# Altium schematic symbol library MICRO-GRUPO_5-5A.schLib.SchLib: 20 symbols
Pins are listed as number, name and electrical type; pins without a type are passive.

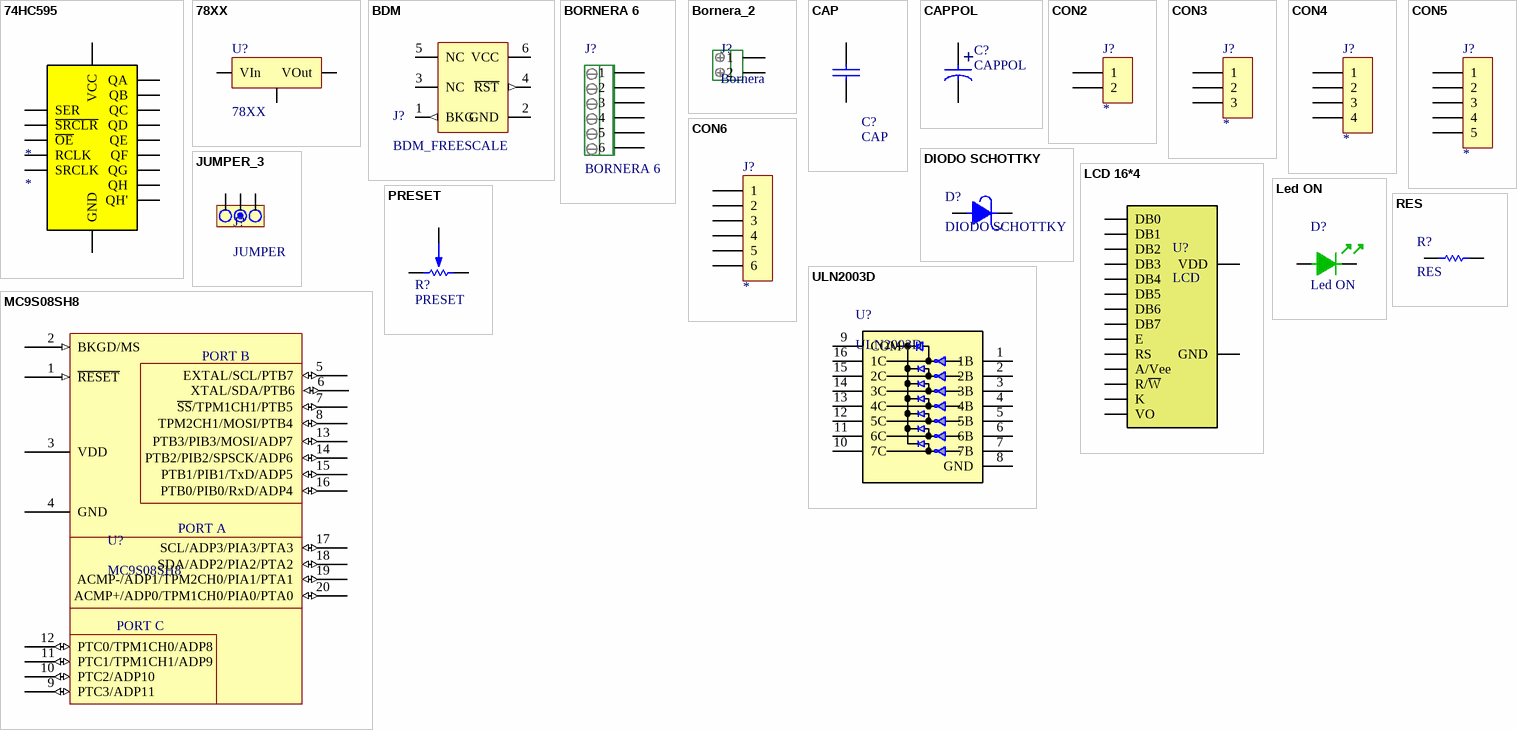
[diagram p0: symbols 74HC595 to ULN2003D]

## 74HC595
designator *
footprint 74hc595_v2
pins: 1 QB, 2 QC, 3 QD, 4 QE, 5 QF, 6 QG, 7 QH, 8 GND, 9 QH', 10 ~{SRCLR}, 11 SRCLK, 12 RCLK, 13 ~{OE}, 14 SER, 15 QA, 16 VCC

## 78XX
designator U?
REGULDOR POSITIVO
footprint TO-220 V
footprint 7805 smd (D-PAK, 3-Pads, Body 6,20x6,66mm (max), IPC Medium Density)
pins: 1 VIn, 2 GND, 3 VOut

## BDM
designator J?, comment BDM_FREESCALE
BDM; Autor: Guido Spataro; Data: Visto desde el esquematico de mash; Fecha: 07/04/19
footprint SIP3*2
pins: 1 BKG (out), 2 GND, 3 NC, 4 ~{RST} (out), 5 NC, 6 VCC

## BORNERA 6
designator J?
current output; AUTOR: MARTINEZ Agustin; FECHA: 5/4
footprint BORNERA6 (Bornera con Tornillos 5mm separaci�n)
pins: 1, 2, 3, 4, 5, 6

## Bornera_2
designator J?, comment Bornera
Bornera de 2 pines; Autor: Guido Spataro; Datasheet: Libebal; Fecha: 07/04/19
footprint BORNERA2 (Bornera con Tornillos 5mm separaci�n)
pins: 1, 2

## CAP
designator C?
Autor: Guido Spataro; Data: Libebal; Fecha: 07/04/19
footprint 0805 (Pasivo 0805)
pins: 1, 2

## CAPPOL
designator C?
Cap polarizado
footprint Capol (Body diameter 6.5mm)
pins: 1, 2
text: +

## CON2
designator J?
footprint SIP2 90
pins: 1, 2

## CON3
designator J?
footprint SIP3 90
pins: 1, 2, 3

## CON4
designator J?
footprint SIP4 90
pins: 1, 2, 3, 4

## CON5
designator J?
footprint SIP5
pins: 1, 2, 3, 4, 5

## CON6
designator J?
footprint SIP6
pins: 1, 2, 3, 4, 5, 6

## DIODO SCHOTTKY
designator D?
Diodo; Autor: Guido Spataro; DAta: https://assets.nexperia.com/documents/outline-drawing/SOD123.pdf; Fecha: 07/04/19
footprint Diodo (SODFL, 2-Leads, Body 1,60x3,60mm, IPC Medium Density)
pins: 1, 2

## JUMPER_3
designator J?, comment JUMPER
Data: Libebal; Autor: Guido Spataro; Fecha: 07/04/19
footprint JUMPER_3
pins: 1, 2, 3

## LCD 16*4
designator U?, comment LCD
footprint LCD
pins: 1 GND, 2 VDD, 3 VO, 4 RS, 5 R/~{W}, 6 E, 7 DB0, 8 DB1, 9 DB2, 10 DB3, 11 DB4, 12 DB5, 13 DB6, 14 DB7, 15 A/Vee, 16 K

## Led ON
designator D?
Led; Autor: Guido Spataro; Data: Libebal; Fecha: 07/04/19
footprint LED_0805 (LED SMD 0805)
pins: 1, 2

## MC9S08SH8
designator U?
Micro controlador; Autor: Guido Spataro; data: https://www.nxp.com/docs/en/data-sheet/MC9S08SH8.pdf; Fecha: 07/04/19
footprint DIP20
pins: 1 ~{RESET} (in), 2 BKGD/MS (in), 3 VDD, 4 GND, 5 EXTAL/SCL/PTB7 (io), 6 XTAL/SDA/PTB6 (io), 7 ~{SS}/TPM1CH1/PTB5 (io), 8 TPM2CH1/MOSI/PTB4 (io), 9 PTC3/ADP11 (io), 10 PTC2/ADP10 (io), 11 PTC1/TPM1CH1/ADP9 (io), 12 PTC0/TPM1CH0/ADP8 (io), 13 PTB3/PIB3/MOSI/ADP7 (io), 14 PTB2/PIB2/SPSCK/ADP6 (io), 15 PTB1/PIB1/TxD/ADP5 (io), 16 PTB0/PIB0/RxD/ADP4 (io), 17 SCL/ADP3/PIA3/PTA3 (io), 18 SDA/ADP2/PIA2/PTA2 (io), 19 ACMP-/ADP1/TPM2CH0/PIA1/PTA1 (io), 20 ACMP+/ADP0/TPM1CH0/PIA0/PTA0 (io)
text: PORT B; PORT A; PORT C

## PRESET
designator R?
footprint PRESET H
pins: 1, 2, 3

## RES
designator R?
Resistencia; Autor: Guido Spataro; Data: Libebal; Fecha: 07/04/19
footprint 0805 (Pasivo 0805)
pins: 1, 2

## ULN2003D
designator U?
Controlador de corriente; AUTOR: MARTINEZ Agustin; FECHA: 5/4; DATASHEET: https://pdf1.alldatasheet.com/datasheet-pdf/view/25572/STMICROELECTRONICS/ULN2003D.html
footprint SOIC16 (controlador de corriente)
pins: 1 1B, 2 2B, 3 3B, 4 4B, 5 5B, 6 6B, 7 7B, 8 GND, 9 COM, 10 7C, 11 6C, 12 5C, 13 4C, 14 3C, 15 2C, 16 1C